# EAGLE library part PAM8304ASR (library PAM8304ASR)
PAM8304ASR DiodesZetex, Audio Amplifier, 8-Pin MSOP Mono Source: Datasheet <https://www.diodes.com/assets/Datasheets/PAM8304.pdf>
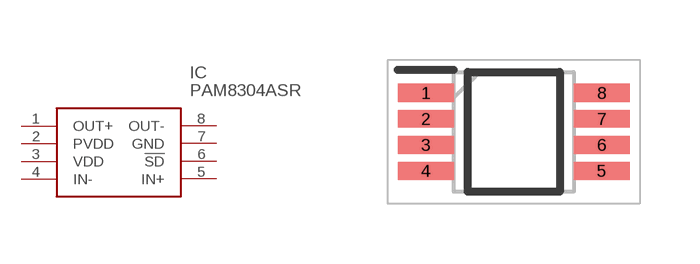
[diagram p0: symbol with the pads of SOP65P490X110-8N; footprint SOP65P490X110-8N]

Designator prefix IC

## PAM8304ASR (Description: PAM8304ASR DiodesZetex, Audio Amplifier, 8-Pin MSOP Mono; Height: 1.1mm; Manufacturer_Name: Diodes Incorporated; Manufacturer_Part_Number: PAM8304ASR; Mouser_Part_Number: 621-PAM8304ASR; Mouser_Price-Stock: https://www.mouser.co.uk/ProductDetail/Diodes-Incorporated/PAM8304ASR?qs=T3IxTwwp%252B0thqqOUH1TiHA%3D%3D)  [SOP65P490X110-8N]
1  OUT+
2  PVDD
3  VDD
4  IN-
5  IN+
6  !SD
7  GND
8  OUT-

## Footprint SOP65P490X110-8N (pad centres in mm)
PAM8304ASR-1
smd 1.4 x 0.45: 1 -2.2,0.975; 2 -2.2,0.325; 3 -2.2,-0.325; 4 -2.2,-0.975; 5 2.2,-0.975; 6 2.2,-0.325; 7 2.2,0.325; 8 2.2,0.975